# EAGLE library part IC_MAX11205 (library akita)
Maxim's 16bit ADC
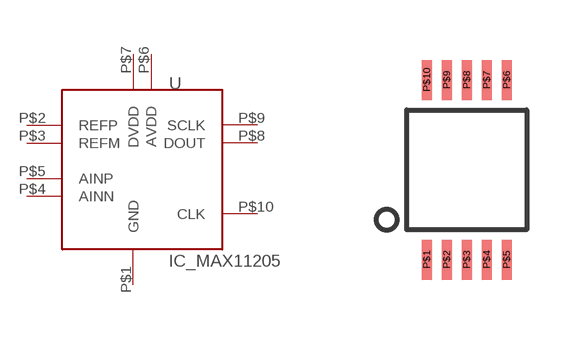
[diagram p123: symbol with the pads of UMAX10; footprint UMAX10]

Designator prefix U

## IC_MAX11205  [UMAX10]
P$1  GND
P$2  REFP
P$3  REFM
P$4  AINN
P$5  AINP
P$6  AVDD
P$7  DVDD
P$8  DOUT
P$9  SCLK
P$10  CLK

## Footprint UMAX10 (pad centres in mm)
smd 0.25 x 1: P$1 -1,-2.25; P$2 -0.5,-2.25; P$3 0,-2.25; P$4 0.5,-2.25; P$5 1,-2.25; P$6 1,2.25; P$7 0.5,2.25; P$8 0,2.25; P$9 -0.5,2.25; P$10 -1,2.25